# Altium footprint library trafo.PcbLib: 2 footprints
Each footprint in its own frame and in the unit in brackets; x right, y up, seen from the top. Pads: shape width x height; smd on the part's side, far side on the other; paste and mask are expansions set on the pad; w line width, h text height; cw(c..) or ccw(c..) is an arc to the next point about the centre after c.
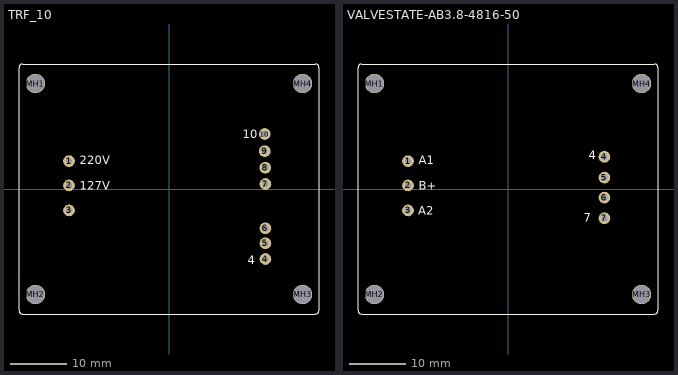
[diagram p0: the footprints below, top view; thin cyan lines are the x and y axes]

## TRF_10 [mil] "Transformer; 8 Leads"
pads (14):
  round 82 hole 42: 1(-700,195) 2(-700,25) 3(-700,-150) 4(675,-490) 5(675,-380) 6(675,-275) 7(675,35) 8(674.17,149.17) 9(670,265) 10(670,385)
  round 135 hole 125: MH1(-935,738.33) MH2(-935,-738.33) MH3(935,-738.33) MH4(935,738.33)
Top Overlay:
  lines w8: -1050,-850 ccw(c-1025,-850) -1025,-875 1025,-875 ccw(c1025,-850) 1050,-850 1050,850 ccw(c1025,850) 1025,875 -1025,875 ccw(c-1025,850) -1050,850 -1050,-850
  text "10" at 515,355 h59.06
  text "4" at 550,-525 h59.06
  text "220V" at -625,175 h59.06
  text "127V" at -625,-5 h59.06

## VALVESTATE-AB3.8-4816-50 [mil] "Transformer; 7 Leads"
pads (11):
  round 82 hole 42: 1(-700,195) 2(-700,25) 3(-700,-150) 4(675,225) 5(675,80) 6(675,-60) 7(675,-205)
  round 135 hole 125: MH1(-935,738.33) MH2(-935,-738.33) MH3(935,-738.33) MH4(935,738.33)
Top Overlay:
  lines w8: -1050,-850 ccw(c-1025,-850) -1025,-875 1025,-875 ccw(c1025,-850) 1050,-850 1050,850 ccw(c1025,850) 1025,875 -1025,875 ccw(c-1025,850) -1050,850 -1050,-850
  text "A2" at -630,-180 h59.06
  text "7" at 530,-230 h59.06
  text "4" at 565,210 h59.06
  text "A1" at -625,175 h59.06
  text "B+" at -625,-5 h59.06